# EAGLE library part PIC16F18857* (library Parts)
Full-Featured 28-Pin Microcontrollers ・プログラムメモリ：３２７６８ワード ・ＥＥＰＲＯＭ：２５６バイト ・データＳＲＡＭ：４０９６バイト ・Ｉ／Ｏ：最大２５ ・動作クロック：３２ＭＨｚ（最大） ・電源電圧：２．３Ｖ～５．５Ｖ ・２８ピンＤＩＰパッケージ
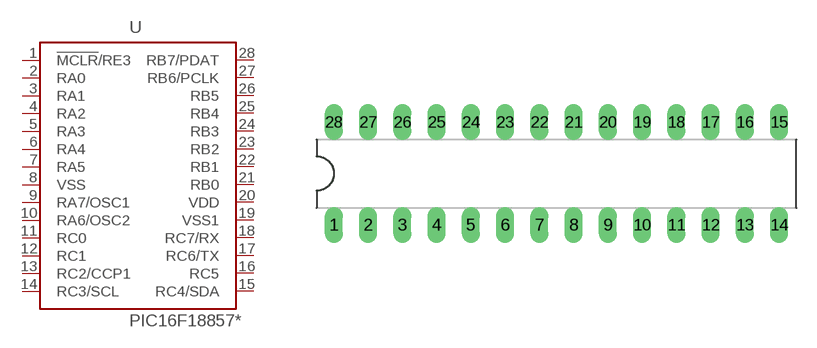
[diagram p10: symbol with the pads of DIL28-3; footprint DIL28-3]

Designator prefix U

## PIC16F18857-I/SP  [DIL28-3]
1  !MCLR!/RE3
2  RA0
3  RA1
4  RA2
5  RA3
6  RA4
7  RA5
8  VSS  pas
9  RA7/OSC1
10  RA6/OSC2
11  RC0
12  RC1
13  RC2/CCP1
14  RC3/SCL
15  RC4/SDA
16  RC5
17  RC6/TX
18  RC7/RX
19  VSS1  pas
20  VDD  pas
21  RB0
22  RB1
23  RB2
24  RB3
25  RB4
26  RB5
27  RB6/PCLK
28  RB7/PDAT

## Footprint DIL28-3 (pad centres in mm)
Dual In Line package type P
drill 0.813 long: 1 -16.51,-3.81; 2 -13.97,-3.81; 3 -11.43,-3.81; 4 -8.89,-3.81; 5 -6.35,-3.81; 6 -3.81,-3.81; 7 -1.27,-3.81; 8 1.27,-3.81; 9 3.81,-3.81; 10 6.35,-3.81; 11 8.89,-3.81; 12 11.43,-3.81; 13 13.97,-3.81; 14 16.51,-3.81; 15 16.51,3.81; 16 13.97,3.81; 17 11.43,3.81; 18 8.89,3.81; 19 6.35,3.81; 20 3.81,3.81; 21 1.27,3.81; 22 -1.27,3.81; 23 -3.81,3.81; 24 -6.35,3.81; 25 -8.89,3.81; 26 -11.43,3.81; 27 -13.97,3.81; 28 -16.51,3.81